# Altium schematic symbol library HV_LIB.SchLib: 11 symbols
Pins are listed as number, name and electrical type; pins without a type are passive.

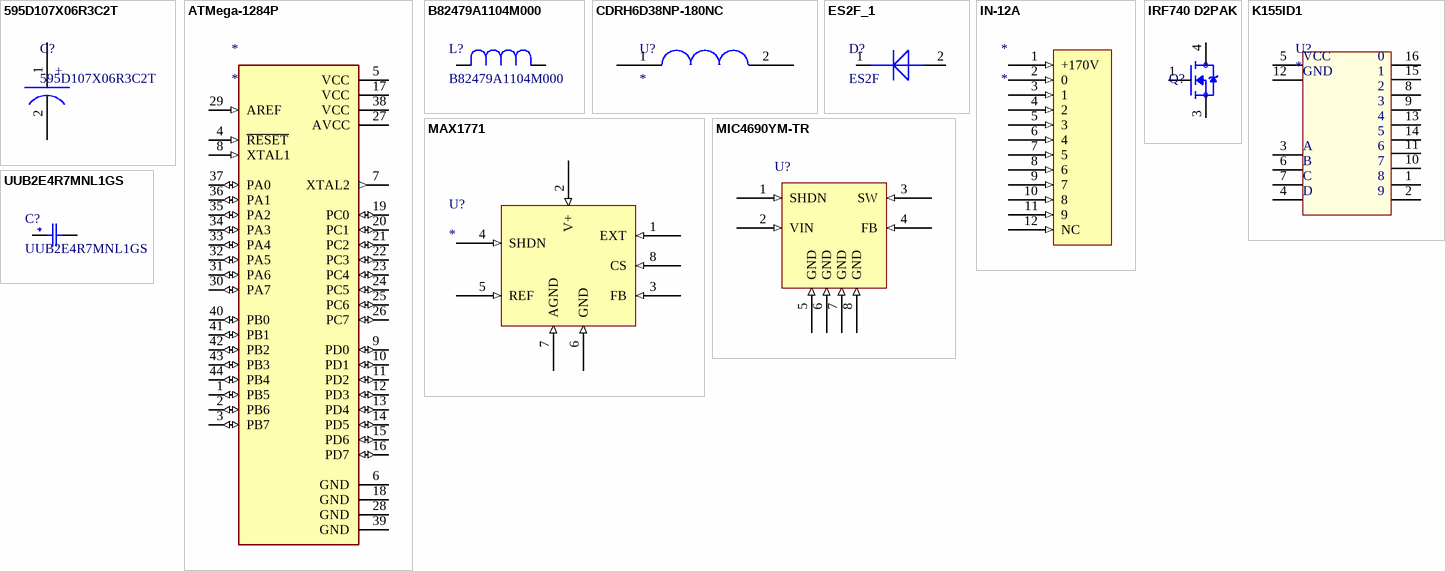
[diagram p0: symbols 595D107X06R3C2T to UUB2E4R7MNL1GS]

## 595D107X06R3C2T
designator C?
595D107X06R3C2T / 100uF, 6.3V
footprint 595D107X06R3C2T
pins: 1, 2
text: +

## ATMega-1284P
designator *
footprint QFP80P1200X1200X120-44N
pins: 1 PB5 (io), 2 PB6 (io), 3 PB7 (io), 4 ~{RESET} (in), 5 VCC (power), 6 GND (power), 7 XTAL2 (out), 8 XTAL1 (in), 9 PD0 (io), 10 PD1 (io), 11 PD2 (io), 12 PD3 (io), 13 PD4 (io), 14 PD5 (io), 15 PD6 (io), 16 PD7 (io), 17 VCC (power), 18 GND (power), 19 PC0 (io), 20 PC1 (io), 21 PC2 (io), 22 PC3 (io), 23 PC4 (io), 24 PC5 (io), 25 PC6 (io), 26 PC7 (io), 27 AVCC (power), 28 GND (power), 29 AREF (in), 30 PA7 (io), 31 PA6 (io), 32 PA5 (io), 33 PA4 (io), 34 PA3 (io), 35 PA2 (io), 36 PA1 (io), 37 PA0 (io), 38 VCC (power), 39 GND (power), 40 PB0 (io), 41 PB1 (io), 42 PB2 (io), 43 PB3 (io), 44 PB4 (io)

## B82479A1104M000
designator L?
No Description Available; Vendor: Epcos; Built_By: EMA_UL_Team; SourceLibrary: Epcos_2010-01-01_Inductors; Type: DEV; Manufacturer_Part_Number: B82479A1104M000; Copyright: Copyright (C) 2021 Accelerated Designs. All rights reserved; RefDes: RefDes
footprint IND_EPCOS_B82479A1
pins: 1, 2

## CDRH6D38NP-180NC
designator U?
footprint CDRH6D38NP-180NC
pins: 1, 2

## ES2F_1
designator D?, comment ES2F
footprint DIOM5436X244N - duplicate
pins: 1, 2

## IN-12A
designator *
footprint IN-12A
pins: 1 +170V (in), 2 0 (in), 3 1 (in), 4 2 (in), 5 3 (in), 6 4 (in), 7 5 (in), 8 6 (in), 9 7 (in), 10 8 (in), 11 9 (in), 12 NC (in)

## IRF740 D2PAK
designator Q?  (value not drawn)
footprint D2PAK
pins: 1 G, 3 S, 4 D

## K155ID1
designator U?
footprint Socket_DIP_16
pins: 1, 2, 3, 4, 5, 6, 7, 8, 9, 10, 11, 12, 13, 14, 15, 16
text: VCC; 0; GND; A; B; C; D

## MAX1771
designator U?
footprint 8-SOIC
pins: 1 EXT (in), 2 V+ (in), 3 FB (in), 4 SHDN (in), 5 REF (in), 6 GND (in), 7 AGND (in), 8 CS (in)

## MIC4690YM-TR
designator U?  (value not drawn)
footprint TPS5402
pins: 1 SHDN (in), 2 VIN (in), 3 SW (in), 4 FB (in), 5 GND (in), 6 GND (in), 7 GND (in), 8 GND (in)

## UUB2E4R7MNL1GS
designator C?
No Description Available; Vendor: Nichicon; Built_By: EMA_Cory; SourceLibrary: Nichicon_2019-09-13; Type: DEV; Manufacturer_Part_Number: UUB2E4R7MNL1GS; Copyright: Copyright (C) 2018 Accelerated Designs. All rights reserved; RefDes: RefDes
footprint CAP_UCD_10X10
pins: 1, 2